# Altium schematic symbol library DMN65D8L-7.SchLib: 1 symbol
Pins are listed as number, name and electrical type; pins without a type are passive.

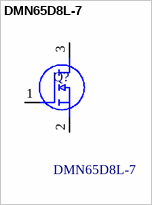
[diagram p0: symbol DMN65D8L-7]

## DMN65D8L-7
designator Q?
N-Channel Enhancement MOSFET SOT-23 Diodes Inc DMN65D8L-7 N-channel MOSFET Transistor, 310 mA, 60 V, 3-Pin SOT-23; Manufacturer_Name: Diodes Incorporated; Geometry.Height: 1.15mm; Mouser Part Number: 621-DMN65D8L-7; Mouser Price/Stock: https://www.mouser.co.uk/ProductDetail/Diodes-Incorporated/DMN65D8L-7?qs=gfe7vQ8txpWvqTwiknwghA%3D%3D; Manufacturer_Part_Number: DMN65D8L-7; Datasheet Link: https://www.diodes.com//assets/Datasheets/DMN65D8L.pdf
footprint SOT96P240X115-3N
pins: 1 G, 2 S, 3 D